# Altium footprint library 100TXW270MEFC10X50.PcbLib: 1 footprints
Each footprint in its own frame and in the unit in brackets; x right, y up, seen from the top. Pads: shape width x height; smd on the part's side, far side on the other; paste and mask are expansions set on the pad; w line width, h text height; cw(c..) or ccw(c..) is an arc to the next point about the centre after c.
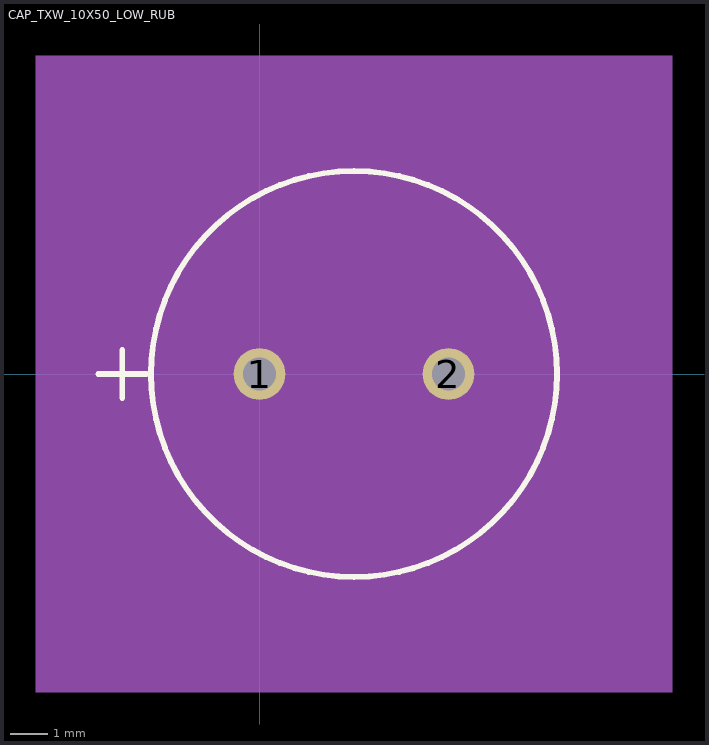
[diagram p0: the footprint, top view; thin cyan lines are the x and y axes]

## CAP_TXW_10X50_LOW_RUB [mil]
pads (2):
  round 54 hole 34 mask+0: 1(0,0) 2(196.85,0)
Top Overlay:
  circle w6: c98.43,0 r211.5
  lines w6: -168.07,0 -118.07,0 ; -143.07,-25 -143.07,25
Mechanical 5:
  region: 429.93,-331.5 -233.07,-331.5 -233.07,331.5 429.93,331.5
Mechanical 13:
  circle w0: c98.43,0 r206.5
  lines w1: -168.07,0 -118.07,0 ; -143.07,-25 -143.07,25
Mechanical 15:
  region: -118.07,89.15 9.28,216.5 187.57,216.5 314.93,89.15 314.93,-89.15 187.57,-216.5 9.28,-216.5 -118.07,-89.15
  lines w1: -118.07,-89.15 9.28,-216.5 187.57,-216.5 314.93,-89.15 314.93,89.15 187.57,216.5 9.28,216.5 -118.07,89.15 -118.07,-89.15
3D body "CAP_TXW_10X50_LOW_RUB.step": height 2047.6, standoff -172.01, extent -108.07,-206.5 305.88,206.5